# Altium schematic symbol library Diode SMD.SchLib: 41 symbols
Pins are listed as number, name and electrical type; pins without a type are passive.

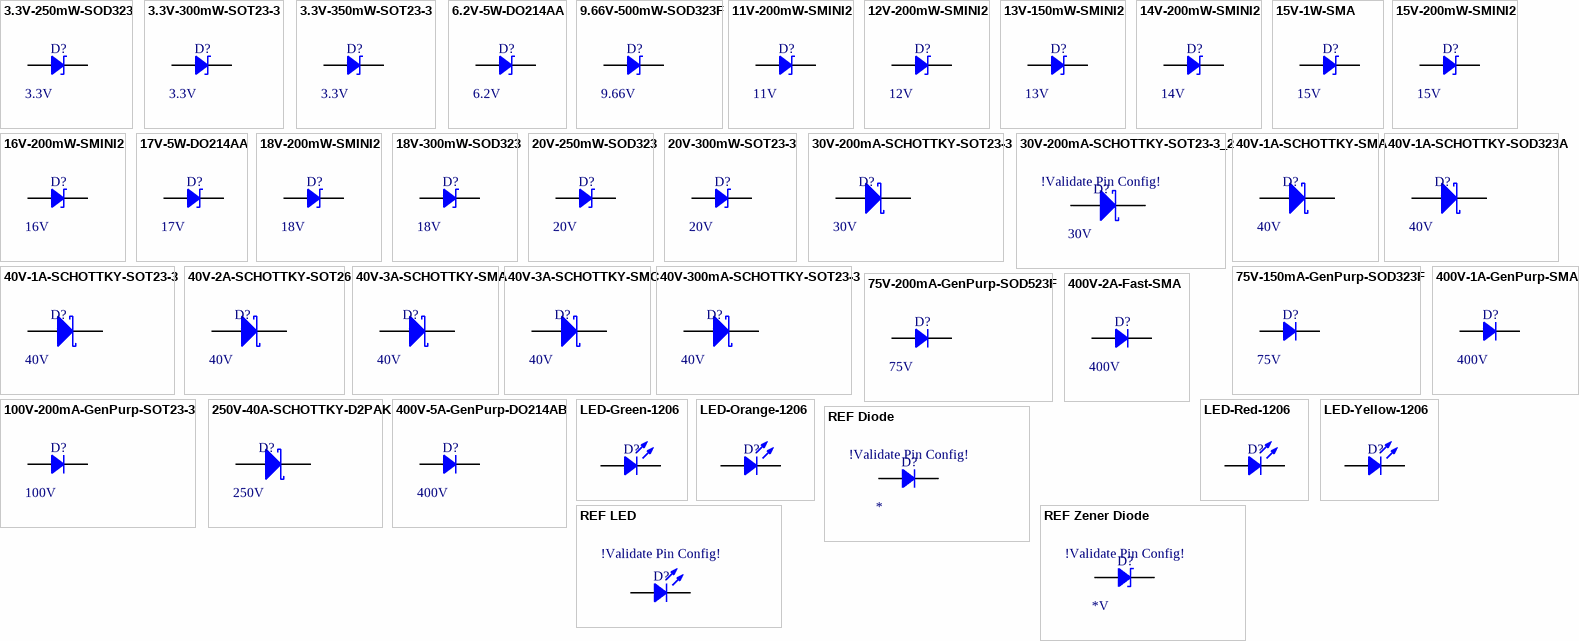
[diagram p0: symbols 3.3V-250mW-SOD323 to REF Zener Diode]

## 3.3V-250mW-SOD323
designator D?  VoltageRating: 3.3V
Zener Diode, 3.3V Voltage Rating, 250mW Power Rating, SOD323 Package; Manufacturer: Central Semiconductor Corp; ManufacturerReference: CMDZ5226B TR; InventoryNumber: DIODE006; PackageReference: SOD323; Distributor: Digikey; DistributorReference: CMDZ5226BCT-ND; Type: ZENER
footprint SOD323 Central Semiconductor Corp (SODFL, 2-Leads, Body 1.25x2.50mm, IPC High Density)
pins: 1, 2

## 3.3V-300mW-SOT23-3
designator D?  VoltageRating: 3.3V
Zener Diode, 3.3V Voltage Rating, 300mW Power Rating, SOT23-3 Package; Manufacturer: Diodes Incorporated; ManufacturerReference: BZX84C3V3-7-F; InventoryNumber: DIODE007; PackageReference: SOT23-3; Distributor: Digikey; DistributorReference: BZX84C3V3-FDICT-ND; Type: ZENER
footprint SOT23-3 On Semiconductor (SOT23, 3-Leads, Body 2.92x2.37mm, Pitch 0.95mm, IPC High Density)
pins: 1, 2

## 3.3V-350mW-SOT23-3
designator D?  VoltageRating: 3.3V
Zener Diode, 3.3V Voltage Rating, 350mW Power Rating, SOT23 Package; Manufacturer: Micro Commercial Co; ManufacturerReference: BZX84C3V3-TP; InventoryNumber: DIODE008; PackageReference: SOT23-3; Distributor: Digikey; DistributorReference: BZX84C3V3-TPMSCT-ND; Type: ZENER
footprint SOT23-3 On Semiconductor (SOT23, 3-Leads, Body 2.92x2.37mm, Pitch 0.95mm, IPC High Density)
pins: 1, 2

## 6.2V-5W-DO214AA
designator D?  VoltageRating: 6.2V
Zener Diode, 6.2V Voltage Rating, 5W Power Rating, DO214AA Package; Manufacturer: Micro Commercial Co; ManufacturerReference: SMBJ5341B-TP; InventoryNumber: DIODE009; PackageReference: DO214AA; Distributor: Digikey; DistributorReference: SMBJ5341B-TPMSCT-ND; Type: ZENER
footprint DO214AA Micro Commercial Co (SODFL, 2-Leads, Body 3.62x5.33mm, IPC High Density)
pins: 1, 2

## 9.66V-500mW-SOD323F
designator D?  VoltageRating: 9.66V
Zener Diode, 9.66V Voltage Rating, 500mW Power Rating, SOD323F Package; Manufacturer: Diodes Incorporated; ManufacturerReference: DDZ10BSF-7; InventoryNumber: DIODE010; PackageReference: SOD323F; Distributor: Digikey; DistributorReference: DDZ10BSF-7DICT-ND; Type: ZENER
footprint SOD323F Diodes Incorporated (SODFL, 2-Leads, Body 1.25x2.50mm, IPC High Density)
pins: 1, 2

## 11V-200mW-SMINI2
designator D?  VoltageRating: 11V
Zener Diode, 11V Voltage Rating, 200mW Power Rating, SMINI2 Package; Manufacturer: Panasonic Electronic Components; ManufacturerReference: DZ2J110M0L; InventoryNumber: DIODE005; PackageReference: SMINI2; Distributor: Digikey; DistributorReference: DZ2J110M0LCT-ND; Type: ZENER
footprint SMini2-F5-B Panasonic Electronic Components
pins: 1, 2

## 12V-200mW-SMINI2
designator D?  VoltageRating: 12V
Zener Diode, 12V Voltage Rating, 200mW Power Rating, SMINI2 Package; Manufacturer: Panasonic Electronic Components; ManufacturerReference: DZ2J12000L; InventoryNumber: DIODE058; PackageReference: SMINI2; Distributor: Digikey; DistributorReference: DZ2J12000LCT-ND; Type: ZENER
footprint SMini2-F5-B Panasonic Electronic Components
pins: 1, 2

## 13V-150mW-SMINI2
designator D?  VoltageRating: 13V
Zener Diode, 13V Voltage Rating, 150mW Power Rating, SMINI2 Package; Manufacturer: Panasonic Electronic Components; ManufacturerReference: MAZ8130GML; InventoryNumber: DIODE055; PackageReference: SMINI2; Distributor: Digikey; DistributorReference: MAZ8130GMLCT-ND; Type: ZENER
footprint SMini2-F5-B Panasonic Electronic Components
pins: 1, 2

## 14V-200mW-SMINI2
designator D?  VoltageRating: 14V
Zener Diode, 14V Voltage Rating, 200mW Power Rating, SMINI2 Package; Manufacturer: Panasonic Electronic Components; ManufacturerReference: DZ2J140M0L; InventoryNumber: DIODE018; PackageReference: SMINI2; Distributor: Digikey; DistributorReference: DZ2J140M0LCT-ND; Type: ZENER
footprint SMini2-F5-B Panasonic Electronic Components
pins: 1, 2

## 15V-1W-SMA
designator D?  VoltageRating: 15V
Zener Diode, 15V Voltage Rating, 1W Power Rating, SMA Package; Manufacturer: Diodes Incorporated; ManufacturerReference: SMAZ15-13-F; InventoryNumber: DIODE012; PackageReference: SMA; Distributor: Digikey; DistributorReference: SMAZ15-FDICT-ND; Type: ZENER
footprint SMA Diodes Incorporated (SODFL, 2-Leads, Body 2.60x5.19mm, IPC High Density)
pins: 1, 2

## 15V-200mW-SMINI2
designator D?  VoltageRating: 15V
Zener Diode, 15V Voltage Rating, 200mW Power Rating, SMINI2 Package; Manufacturer: Panasonic Electronic Components; ManufacturerReference: DZ2J150M0L; InventoryNumber: DIODE057; PackageReference: SMINI2; Distributor: Digikey; DistributorReference: DZ2J150M0LCT-ND; Type: ZENER
footprint SMini2-F5-B Panasonic Electronic Components
pins: 1, 2

## 16V-200mW-SMINI2
designator D?  VoltageRating: 16V
Zener Diode, 16V Voltage Rating, 200mW Power Rating, SOD323F Package; Manufacturer: Panasonic Electronic Components; ManufacturerReference: DZ2J160M0L; InventoryNumber: DIODE059; PackageReference: SMINI2; Distributor: Digikey; DistributorReference: DZ2J160M0LCT-ND; Type: ZENER
footprint SMini2-F5-B Panasonic Electronic Components
pins: 1, 2

## 17V-5W-DO214AA
designator D?  VoltageRating: 17V
Zener Diode, 17V Voltage Rating, 5W Power Rating, DO214AA Package; Manufacturer: Micro Commercial Co; ManufacturerReference: SMBJ5354B-TP; InventoryNumber: DIODE056; PackageReference: DO214AA; Distributor: Digikey; DistributorReference: SMBJ5354B-TPMSCT-ND; Type: ZENER
footprint DO214AA Micro Commercial Co (SODFL, 2-Leads, Body 3.62x5.33mm, IPC High Density)
pins: 1, 2

## 18V-200mW-SMINI2
designator D?  VoltageRating: 18V
Zener Diode, 18V Voltage Rating, 200mW Power Rating, SMINI2 Package; Manufacturer: Panasonic Electronic Components; ManufacturerReference: DZ2J18000L; InventoryNumber: DIODE060; PackageReference: SMINI2; Distributor: Digikey; DistributorReference: DZ2J18000LCT-ND; Type: ZENER
footprint SMini2-F5-B Panasonic Electronic Components
pins: 1, 2

## 18V-300mW-SOD323
designator D?  VoltageRating: 18V
Zener Diode, 18V Voltage Rating, 300mW Power Rating, SOD323 Package; Manufacturer: ON Semiconductor; ManufacturerReference: MM3Z18VT1G; InventoryNumber: DIODE014; PackageReference: SOD323; Distributor: Digikey; DistributorReference: MM3Z18VT1GOSCT-ND; Type: ZENER
footprint SOD323 Central Semiconductor Corp (SODFL, 2-Leads, Body 1.25x2.50mm, IPC High Density)
pins: 1, 2

## 20V-250mW-SOD323
designator D?  VoltageRating: 20V
Zener Diode, 20V Voltage Rating, 250mW Power Rating, SOD323 Package; Manufacturer: Central Semiconductor Corp; ManufacturerReference: CMDZ5250B TR; InventoryNumber: DIODE017; PackageReference: SOD323; Distributor: Digikey; DistributorReference: CMDZ5250BCT-ND; Type: ZENER
footprint SOD323 Central Semiconductor Corp (SODFL, 2-Leads, Body 1.25x2.50mm, IPC High Density)
pins: 1, 2

## 20V-300mW-SOT23-3
designator D?  VoltageRating: 20V
Zener Diode, 20V Voltage Rating, 300mW Power Rating, SOT23-3 Package; Manufacturer: Diodes Incorporated; ManufacturerReference: BZX84C20-7-F; InventoryNumber: DIODE015; PackageReference: SOT23-3; Distributor: Digikey; DistributorReference: BZX84C20-FDICT-ND; Type: ZENER
footprint SOT23-3 On Semiconductor (SOT23, 3-Leads, Body 2.92x2.37mm, Pitch 0.95mm, IPC High Density)
pins: 1, 2

## 30V-200mA-SCHOTTKY-SOT23-3
designator D?  VoltageRating: 30V
Diode, 30V Voltage Rating, 200mA Current Rating, Schottky Type, SOT23-3 Package; Manufacturer: ON Semiconductor; ManufacturerReference: BAT54S; InventoryNumber: DIODE054; PackageReference: SOT23-3; Distributor: Digikey; DistributorReference: BAT54SFSCT-ND; Type: SCHOTTKY
footprint SOT23-3 On Semiconductor (SOT23, 3-Leads, Body 2.92x2.37mm, Pitch 0.95mm, IPC High Density)
pins: 1 A, 2 K

## 30V-200mA-SCHOTTKY-SOT23-3_2
designator D?  VoltageRating: 30V
Diode,  30V Voltage Rating,  200mA Current Rating,  Schottky Type,  SOT23 Package; Manufacturer: Vishay Semiconductor Diodes Division; ManufacturerReference: BAT54A-E3-18; InventoryNumber: DIODE 019; PackageReference: SOT23-3; Distributor: Digikey; DistributorReference: BAT54A-E3-18CT-ND; Type: SCHOTTKY
footprint SOT23-3 On Semiconductor (SOT23, 3-Leads, Body 2.92x2.37mm, Pitch 0.95mm, IPC High Density)
pins: 1 A, 2 K
text: !Validate Pin Config!

## 40V-1A-SCHOTTKY-SMA
designator D?  VoltageRating: 40V
Diode, 40V Voltage Rating, 1A Current Rating, SCHOTTKY Type, SMA Package; Manufacturer: ON Semiconductor; ManufacturerReference: MBRA140T3G; InventoryNumber: DIODE021; PackageReference: SMA; Distributor: Digikey; DistributorReference: MBRA140T3GOSCT-ND; Type: SCHOTTKY
footprint SMA Diodes Incorporated (SODFL, 2-Leads, Body 2.60x5.19mm, IPC High Density)
pins: 1 A, 2 K

## 40V-1A-SCHOTTKY-SOD323A
designator D?  VoltageRating: 40V
Diode, 40V Voltage Rating, 1A Current Rating, SCHOTTKY Type, SOD323A Package; Manufacturer: Torex Semiconductor Ltd; ManufacturerReference: XBS104S13R-G; InventoryNumber: DIODE036; PackageReference: SOD323A; Distributor: Digikey; DistributorReference: 893-1188-1-ND; Type: SCHOTTKY
footprint SOD323A Torex Semiconductor Ltd (SODFL, 2-Leads, Body 1.30x2.60mm, IPC High Density)
pins: 1 A, 2 K

## 40V-1A-SCHOTTKY-SOT23-3
designator D?  VoltageRating: 40V
Diode, 40V Voltage Rating, 1A Current Rating, SCHOTTKY Type, SOT23 Package; Manufacturer: Diodes Incorporated; ManufacturerReference: BAT1000-7-F; InventoryNumber: DIODE022; PackageReference: SOT23-3; Distributor: Digikey; DistributorReference: BAT1000-7-FDICT-ND; Type: SCHOTTKY
footprint SOT23-3 On Semiconductor (SOT23, 3-Leads, Body 2.92x2.37mm, Pitch 0.95mm, IPC High Density)
pins: 1 A, 2 K

## 40V-2A-SCHOTTKY-SOT26
designator D?  VoltageRating: 40V
Diode, 40V Voltage Rating, 2A Current Rating, SCHOTTKY Type, SOT23-6 Package; Manufacturer: Diodes Incorporated; ManufacturerReference: ZHCS2000TA; InventoryNumber: DIODE023; PackageReference: SOT26; Distributor: Digikey; DistributorReference: ZHCS2000CT-ND; Type: SCHOTTKY
footprint SOT26 Diodes Incorporated (SOT23, 6-Leads, Body 3.00x2.85mm, Pitch 0.95mm, IPC High Density)
pins: 1 A, 2 K

## 40V-3A-SCHOTTKY-SMA
designator D?  VoltageRating: 40V
Diode, 40V Voltage Rating, 3A Current Rating, SCHOTTKY Type, SMA Package; Manufacturer: Diodes Incorporated; ManufacturerReference: B340A-13-F; InventoryNumber: DIODE024; PackageReference: SMA; Distributor: Digikey; DistributorReference: B340A-FDICT-ND; Type: SCHOTTKY
footprint SMA Diodes Incorporated (SODFL, 2-Leads, Body 2.60x5.19mm, IPC High Density)
pins: 1 A, 2 K

## 40V-3A-SCHOTTKY-SMC
designator D?  VoltageRating: 40V
Diode, 40V Voltage Rating, 3A Current Rating, SCHOTTKY Type, SMC Package; Manufacturer: Diodes Incorporated; ManufacturerReference: B340-13-F; InventoryNumber: DIODE025; PackageReference: SMC; Distributor: Digikey; DistributorReference: B340-FDICT-ND; Type: SCHOTTKY
footprint SMC/DO214AB Diodes Incorporated (SODFL, 2-Leads, Body 5.90x7.94mm, IPC High Density)
pins: 1 A, 2 K

## 40V-300mA-SCHOTTKY-SOT23-3
designator D?  VoltageRating: 40V
Diode, 40V Voltage Rating, 300mA Current Rating, SCHOTTKY Type, SOT23-3 Package; Manufacturer: STMicroelectronics; ManufacturerReference: BAT54FILM; InventoryNumber: DIODE020; PackageReference: SOT23-3; Distributor: Digikey; DistributorReference: 497-7162-1-ND; Type: SCHOTTKY
footprint SOT23-3 On Semiconductor (SOT23, 3-Leads, Body 2.92x2.37mm, Pitch 0.95mm, IPC High Density)
pins: 1 A, 2 K

## 75V-150mA-GenPurp-SOD323F
designator D?  VoltageRating: 75V
Diode, 75V Voltage Rating, 150mA Current Rating, General Purpose Type, SOD323F Package; Manufacturer: ON Semiconductor; ManufacturerReference: 1N4148WS; InventoryNumber: DIODE037; PackageReference: SOD323F; Distributor: Digikey; DistributorReference: 1N4148WSFSCT-ND; Type: General Purpose
footprint SOD323F Diodes Incorporated (SODFL, 2-Leads, Body 1.25x2.50mm, IPC High Density)
pins: 1, 2

## 75V-200mA-GenPurp-SOD523F
designator D?  VoltageRating: 75V
Diode, 75V Voltage Rating, 200mA Current Rating, General Purpose Type, SOD523F Package; Manufacturer: ON Semiconductor; ManufacturerReference: 1N914BWT; InventoryNumber: DIODE038; PackageReference: SOD523F; Distributor: Digikey; DistributorReference: 1N914BWTCT-ND; Type: General Purpose
footprint SOD523F ON Semiconductor (SODFL, 2-Leads, Body 0.80x1.60mm, IPC High Density)
pins: 1, 2

## 100V-200mA-GenPurp-SOT23-3
designator D?  VoltageRating: 100V
Diode-Array, 100V Voltage Rating,200mA Current Rating,  General Purpose Type, SOT23 Package; Manufacturer: ON Semiconductor; ManufacturerReference: MMBD4148SE; InventoryNumber: DIODE0 40; Type: GEN PURP; PackageReference: SOT23-3; Distributor: Digikey; DistributorReference: MMBD4148SECT-ND
footprint SOT23-3 On Semiconductor (SOT23, 3-Leads, Body 2.92x2.37mm, Pitch 0.95mm, IPC High Density)
pins: 1, 2

## 250V-40A-SCHOTTKY-D2PAK
designator D?  VoltageRating: 250V
Diode, 250V Voltage Rating, 40A Current Rating,  Schottky Type, D2PAK Package; Manufacturer: ON Semiconductor; ManufacturerReference: MBRB40250TG; InventoryNumber: DIODE1 01; PackageReference: D2PAK; Distributor: Digikey; DistributorReference: MBRB40250TGOS-ND; Type: Schottky
footprint D2PAK ON Semiconductor (D2-PAK, 3-Pads, Body 7.93x8.51mm (max), IPC High Density)
pins: 1 A, 2 K

## 400V-1A-GenPurp-SMA
designator D?  VoltageRating: 400V
Diode, 400V Voltage Rating, 1A Current Rating, General Purpose Type, SMA Package; Manufacturer: ON Semiconductor; ManufacturerReference: MRA4004T3G; InventoryNumber: DIODE043; PackageReference: SMA; Distributor: Digikey; DistributorReference: MRA4004T3GOSCT-ND; Type: General Purpose
footprint SMA Diodes Incorporated (SODFL, 2-Leads, Body 2.60x5.19mm, IPC High Density)
pins: 1, 2

## 400V-2A-Fast-SMA
designator D?  VoltageRating: 400V
Diode, 400V Voltage Rating, 2A Current Rating, Fast Type, SMA Package; Manufacturer: ON Semiconductor; ManufacturerReference: MURA240T3G; InventoryNumber: DIODE050; PackageReference: SMA; Distributor: Digikey; DistributorReference: MURA240T3GOSCT-ND; Type: Fast
footprint SMA Diodes Incorporated (SODFL, 2-Leads, Body 2.60x5.19mm, IPC High Density)
pins: 1, 2

## 400V-5A-GenPurp-DO214AB
designator D?  VoltageRating: 400V
Diode, 400V Voltage Rating, 5A Current Rating, General Purpose Type, DO214AB Package; Manufacturer: Vishay Semiconductor Diodes Division; ManufacturerReference: S5G-E3/57T; InventoryNumber: DIODE049; PackageReference: DO214AB/SMC; Distributor: Digikey; DistributorReference: S5G-E3/57TGICT-ND; Type: General Purpose
footprint DO214AA Micro Commercial Co (SODFL, 2-Leads, Body 3.62x5.33mm, IPC High Density)
pins: 1, 2

## LED-Green-1206
designator D?
LED, Green Color, 1206 Package; Manufacturer: Kingbright; ManufacturerReference: APT3216SGC; InventoryNumber: DIODE004; PackageReference: 1206; Distributor: Digikey; DistributorReference: 754-1141-1-ND; Type: LED; Color: Green
footprint LED 1206/3216 Kingbright (SODFL, 2-Leads, Body 1.60x3.20mm, IPC High Density)
pins: 1, 2

## LED-Orange-1206
designator D?
LED, Orange Color, 1206 Package; Manufacturer: Kingbright; ManufacturerReference: APT3216SECK; InventoryNumber: DIODE002; PackageReference: 1206; Distributor: Digikey; DistributorReference: 754-1140-1-ND; Type: LED; Color: Orange
footprint LED 1206/3216 Kingbright (SODFL, 2-Leads, Body 1.60x3.20mm, IPC High Density)
pins: 1, 2

## LED-Red-1206
designator D?
LED, Red Color, 1206 Package; Manufacturer: Kingbright; ManufacturerReference: APT3216SRCPRV; InventoryNumber: DIODE001; PackageReference: 1206; Distributor: Digikey; DistributorReference: 754-1142-1-ND; Type: LED; Color: Red
footprint LED 1206/3216 Kingbright (SODFL, 2-Leads, Body 1.60x3.20mm, IPC High Density)
pins: 1, 2

## LED-Yellow-1206
designator D?
LED, Color Yellow, Package 1206; Manufacturer: Kingbright; ManufacturerReference: APT3216YC; InventoryNumber: DIODE003; PackageReference: 1206; Distributor: Digikey; DistributorReference: 754-1145-1-ND; Type: LED; Color: Yellow
footprint LED 1206/3216 Kingbright (SODFL, 2-Leads, Body 1.60x3.20mm, IPC High Density)
pins: 1, 2

## REF Diode
designator D?
Diode, Voltage Rating, Current Rating, Type, Package; PackageReference: *; Distributor: Digikey; DistributorReference: *; InventoryNumber: *; Manufacturer: *; ManufacturerReference: *; Type: *; VoltageRating: *
pins: 1, 2
text: !Validate Pin Config!

## REF LED
designator D?
LED, Color, Package; PackageReference: *; Distributor: Digikey; DistributorReference: *; InventoryNumber: *; Manufacturer: *; ManufacturerReference: *; Type: *
pins: 1, 2
text: !Validate Pin Config!

## REF Zener Diode
designator D?  VoltageRating: *V
Zener Diode, Voltage Rating, Power Rating, Package; PackageReference: *; Distributor: Digikey; DistributorReference: *; InventoryNumber: *; Manufacturer: *; ManufacturerReference: *; Type: ZENER
pins: 1, 2
text: !Validate Pin Config!

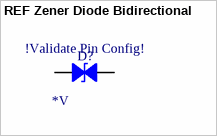
[diagram p1: symbol REF Zener Diode Bidirectional]

## REF Zener Diode Bidirectional
designator D?  VoltageRating: *V
Zener Diode Bidirectional, voltage rating, current rating, package; PackageReference: *; Distributor: Digikey; DistributorReference: *; InventoryNumber: *; Manufacturer: *; ManufacturerReference: *; Type: *
pins: 1, 2
text: !Validate Pin Config!